# Altium schematic symbol library 2x7SegmentDisplay.Schlib: 1 symbol
Pins are listed as number, name and electrical type; pins without a type are passive.

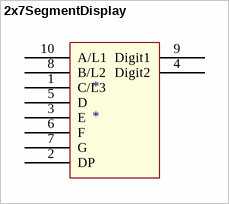
[diagram p0: symbol 2x7SegmentDisplay]

## 2x7SegmentDisplay
designator *
pins: 1 C/L3, 2 DP, 3 E, 4 Digit2, 5 D, 6 F, 7 G, 8 B/L2, 9 Digit1, 10 A/L1